# Altium schematic symbol library Phoenix3er.SchLib: 1 symbol
Pins are listed as number, name and electrical type; pins without a type are passive.

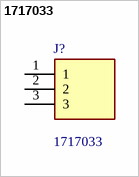
[diagram p0: symbol 1717033]

## 1717033
designator J?
Fixed Terminal Blocks 3P 7.5mm; Manufacturer_Name: Phoenix Contact; Geometry.Height: 13.9mm; Manufacturer_Part_Number: 1717033; Mouser Part Number: 651-1717033; Mouser Price/Stock: https://www.mouser.co.uk/ProductDetail/Phoenix-Contact/1717033?qs=aYsvlkyO7qPHPfcN%252B81Plg%3D%3D; Arrow Part Number: 1717033; Arrow Price/Stock: https://www.arrow.com/en/products/1717033/phoenix-contact?utm_currency=USD&region=nac; Datasheet Link: https://media.digikey.com/pdf/Data%20Sheets/Phoenix%20Contact%20PDFs/1717033.pdf
footprint 1717033
pins: 1, 2, 3